# Altium schematic symbol library 74HC125D.SchLib: 1 symbol
Pins are listed as number, name and electrical type; pins without a type are passive.

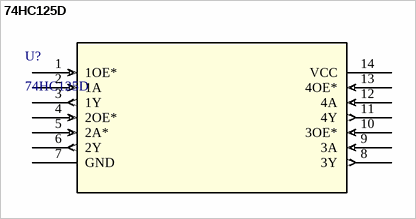
[diagram p0: symbol 74HC125D]

## 74HC125D
designator U?
Description; Manufacturer_Name: Nexperia; Copyright: Copyright (C) 2025 Ultra Librarian. All rights reserved.; Manufacturer_Part_Number: 74HC125D; RefDes: RefDes; Type: Type
footprint SOT108-1_NEX
pins: 1 1OE* (in), 2 1A (in), 3 1Y (out), 4 2OE* (in), 5 2A* (in), 6 2Y (out), 7 GND (power), 8 3Y (out), 9 3A (in), 10 3OE* (in), 11 4Y (out), 12 4A (in), 13 4OE* (in), 14 VCC (power)